# Altium footprint library RS-282G05A3-SMRT.PcbLib: 3 footprints
Each footprint in its own frame and in the unit in brackets; x right, y up, seen from the top. Pads: shape width x height; smd on the part's side, far side on the other; paste and mask are expansions set on the pad; w line width, h text height; cw(c..) or ccw(c..) is an arc to the next point about the centre after c.
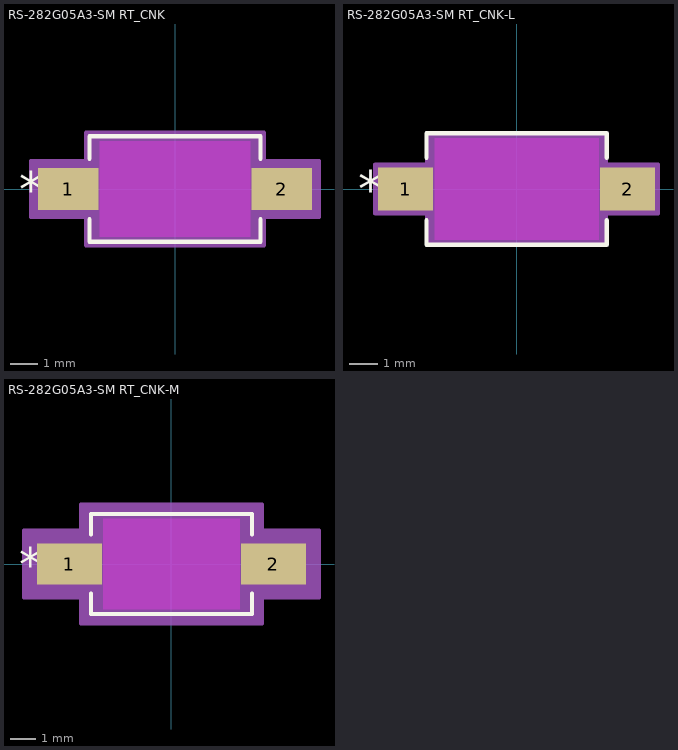
[diagram p0: the footprints below, top view; thin cyan lines are the x and y axes]

## RS-282G05A3-SM RT_CNK [mil]
pads (2):
  rect 87x61 smd paste+0 mask+0: 1(-153.57,0) 2(153.57,0)
Top Overlay:
  lines w6: -123,-43.6 -123,-76 123,-76 123,-43.6 ; -123,43.6 -123,76 123,76 123,43.6
  text "*" at -224.57,-25 h50
Keep-Out Layer:
  region: -108.07,-69 -108.07,69 108.07,69 108.07,-69
Mechanical 13:
  lines w1: -118,-35.5 -82.5,-71 ; -118,35.5 -82.5,71 ; -183.07,-29.5 -118,-29.5 -118,29.5 -183.07,29.5 -183.07,-29.5 ; -118,-71 -118,71 118,71 118,-71 -118,-71 ; 118,-29.5 183.07,-29.5 183.07,29.5 118,29.5 118,-29.5
  text "*" at -120.5,-25 h50
Mechanical 15:
  region: -128,-40.5 -207.07,-40.5 -207.07,40.5 -128,40.5 -128,81 128,81 128,40.5 207.07,40.5 207.07,-40.5 128,-40.5 128,-81 -128,-81
  lines w6: -207.07,-40.5 -128,-40.5 -128,-81 128,-81 128,-40.5 207.07,-40.5 207.07,40.5 128,40.5 128,81 -128,81 -128,40.5 -207.07,40.5 -207.07,-40.5
3D body "RS-282G05A3-SMRT_CNK.step": height 98.11, standoff 0, extent -183.07,-70.98 183.07,70.98
3D body "RS-282G05A3-SMRT_CNK.step": height 98.11, standoff 0, extent -183.07,-70.98 183.07,70.98

## RS-282G05A3-SM RT_CNK-L [mil]
pads (2):
  rect 75x59 smd paste+0 mask+0: 1(-151.57,0) 2(151.57,0)
Top Overlay:
  lines w6: -123,-42.6 -123,-76 123,-76 123,-42.6 ; -123,42.6 -123,76 123,76 123,42.6
  text "*" at -216.57,-25 h50
Keep-Out Layer:
  region: -112.07,-69 -112.07,69 112.07,69 112.07,-69
Mechanical 13:
  lines w1: -118,-35.5 -82.5,-71 ; -118,35.5 -82.5,71 ; -183.07,-29.5 -118,-29.5 -118,29.5 -183.07,29.5 -183.07,-29.5 ; -118,-71 -118,71 118,71 118,-71 -118,-71 ; 118,-29.5 183.07,-29.5 183.07,29.5 118,29.5 118,-29.5
  text "*" at -120.5,-25 h50
Mechanical 15:
  region: -122,-33.5 -193.07,-33.5 -193.07,33.5 -122,33.5 -122,75 122,75 122,33.5 193.07,33.5 193.07,-33.5 122,-33.5 122,-75 -122,-75
  lines w6: -193.07,-33.5 -122,-33.5 -122,-75 122,-75 122,-33.5 193.07,-33.5 193.07,33.5 122,33.5 122,75 -122,75 -122,33.5 -193.07,33.5 -193.07,-33.5
3D body: height 10, standoff 0, extent 0,0 10,10

## RS-282G05A3-SM RT_CNK-M [mil]
pads (2):
  rect 99x63 smd paste+0 mask+0: 1(-155.57,0) 2(155.57,0)
Top Overlay:
  lines w6: -123,-44.6 -123,-76 123,-76 123,-44.6 ; -123,44.6 -123,76 123,76 123,44.6
  text "*" at -232.57,-25 h50
Keep-Out Layer:
  region: -104.07,-69 -104.07,69 104.07,69 104.07,-69
Mechanical 13:
  lines w1: -118,-35.5 -82.5,-71 ; -118,35.5 -82.5,71 ; -183.07,-29.5 -118,-29.5 -118,29.5 -183.07,29.5 -183.07,-29.5 ; -118,-71 -118,71 118,71 118,-71 -118,-71 ; 118,-29.5 183.07,-29.5 183.07,29.5 118,29.5 118,-29.5
  text "*" at -120.5,-25 h50
Mechanical 15:
  region: -138,-51.5 -225.07,-51.5 -225.07,51.5 -138,51.5 -138,91 138,91 138,51.5 225.07,51.5 225.07,-51.5 138,-51.5 138,-91 -138,-91
  lines w6: -225.07,-51.5 -138,-51.5 -138,-91 138,-91 138,-51.5 225.07,-51.5 225.07,51.5 138,51.5 138,91 -138,91 -138,51.5 -225.07,51.5 -225.07,-51.5
3D body: height 10, standoff 0, extent 0,0 10,10